# Altium schematic symbol library Schlib_FPGA_Controller.SchLib: 16 symbols
Pins are listed as number, name and electrical type; pins without a type are passive.

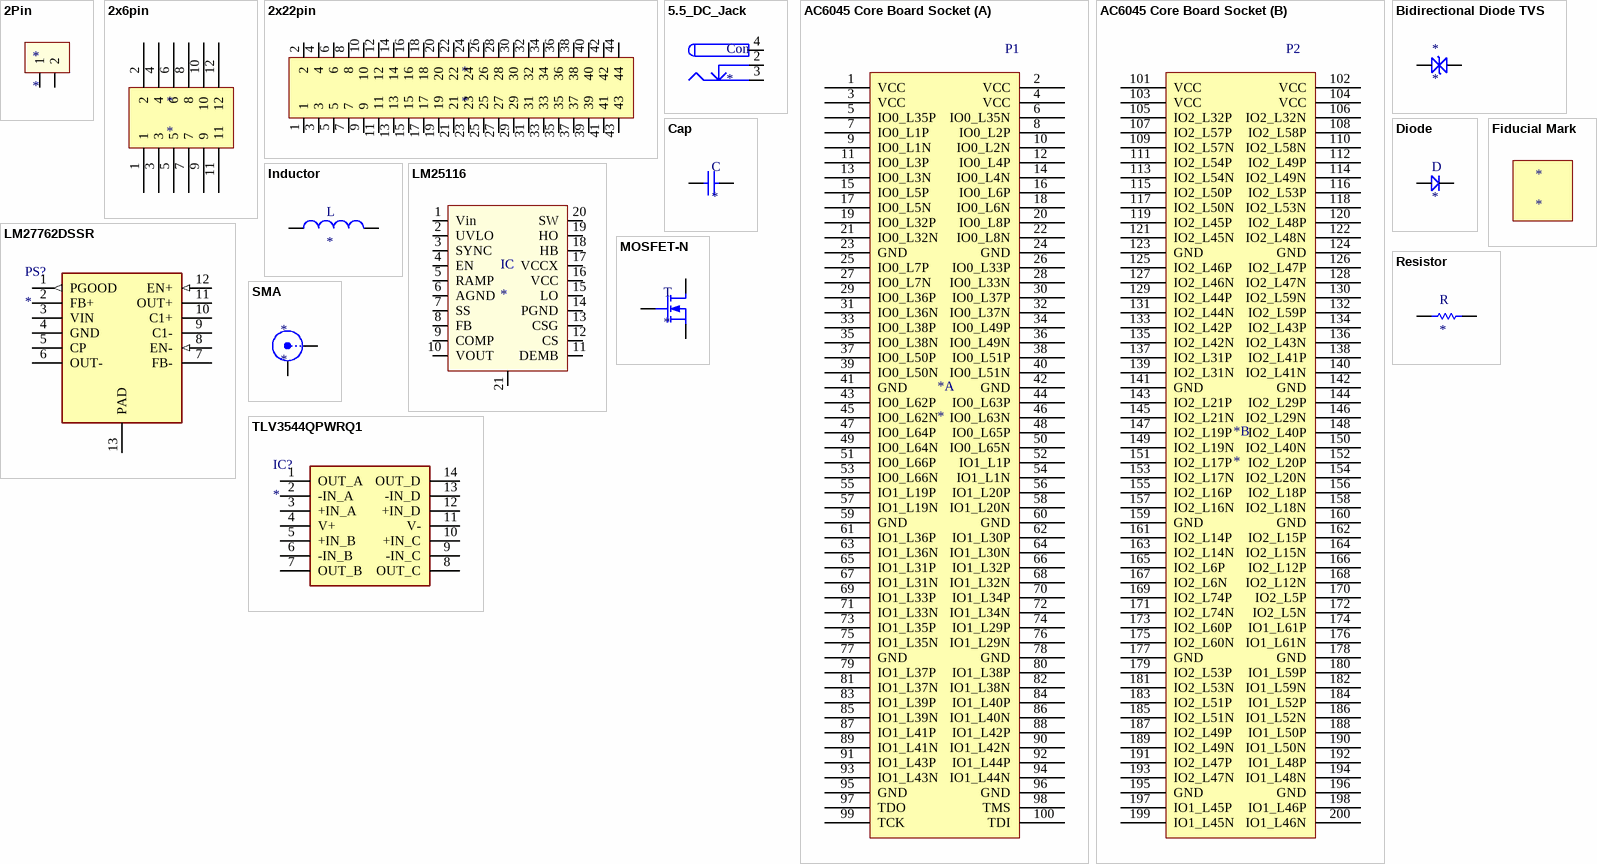
[diagram p0: symbols 2Pin to TLV3544QPWRQ1]

## 2Pin
designator *
footprint XH2.54-2pin
pins: 1, 2

## 2x6pin
designator *
footprint 2MM_2*6PIN
pins: 1, 2, 3, 4, 5, 6, 7, 8, 9, 10, 11, 12

## 2x22pin
designator *
footprint 2mm_2x22pin
pins: 1, 2, 3, 4, 5, 6, 7, 8, 9, 10, 11, 12, 13, 14, 15, 16, 17, 18, 19, 20, 21, 22, 23, 24, 25, 26, 27, 28, 29, 30, 31, 32, 33, 34, 35, 36, 37, 38, 39, 40, 41, 42, 43, 44

## 5.5_DC_Jack
designator Con
footprint 5.5_DC_Jack
pins: 2 (power), 3 (power), 4

## AC6045 Core Board Socket
designator *
footprint Core Board Socket
part A pins: 1 VCC, 2 VCC, 3 VCC, 4 VCC, 5 IO0_L35P, 6 IO0_L35N, 7 IO0_L1P, 8 IO0_L2P, 9 IO0_L1N, 10 IO0_L2N, 11 IO0_L3P, 12 IO0_L4P, 13 IO0_L3N, 14 IO0_L4N, 15 IO0_L5P, 16 IO0_L6P, 17 IO0_L5N, 18 IO0_L6N, 19 IO0_L32P, 20 IO0_L8P, 21 IO0_L32N, 22 IO0_L8N, 23 GND, 24 GND, 25 IO0_L7P, 26 IO0_L33P, 27 IO0_L7N, 28 IO0_L33N, 29 IO0_L36P, 30 IO0_L37P, 31 IO0_L36N, 32 IO0_L37N, 33 IO0_L38P, 34 IO0_L49P, 35 IO0_L38N, 36 IO0_L49N, 37 IO0_L50P, 38 IO0_L51P, 39 IO0_L50N, 40 IO0_L51N, 41 GND, 42 GND, 43 IO0_L62P, 44 IO0_L63P, 45 IO0_L62N, 46 IO0_L63N, 47 IO0_L64P, 48 IO0_L65P, 49 IO0_L64N, 50 IO0_L65N, 51 IO0_L66P, 52 IO1_L1P, 53 IO0_L66N, 54 IO1_L1N, 55 IO1_L19P, 56 IO1_L20P, 57 IO1_L19N, 58 IO1_L20N, 59 GND, 60 GND, 61 IO1_L36P, 62 IO1_L30P, 63 IO1_L36N, 64 IO1_L30N, 65 IO1_L31P, 66 IO1_L32P, 67 IO1_L31N, 68 IO1_L32N, 69 IO1_L33P, 70 IO1_L34P, 71 IO1_L33N, 72 IO1_L34N, 73 IO1_L35P, 74 IO1_L29P, 75 IO1_L35N, 76 IO1_L29N, 77 GND, 78 GND, 79 IO1_L37P, 80 IO1_L38P, 81 IO1_L37N, 82 IO1_L38N, 83 IO1_L39P, 84 IO1_L40P, 85 IO1_L39N, 86 IO1_L40N, 87 IO1_L41P, 88 IO1_L42P, 89 IO1_L41N, 90 IO1_L42N, 91 IO1_L43P, 92 IO1_L44P, 93 IO1_L43N, 94 IO1_L44N, 95 GND, 96 GND, 97 TDO, 98 TMS, 99 TCK, 100 TDI
part B pins: 101 VCC, 102 VCC, 103 VCC, 104 VCC, 105 IO2_L32P, 106 IO2_L32N, 107 IO2_L57P, 108 IO2_L58P, 109 IO2_L57N, 110 IO2_L58N, 111 IO2_L54P, 112 IO2_L49P, 113 IO2_L54N, 114 IO2_L49N, 115 IO2_L50P, 116 IO2_L53P, 117 IO2_L50N, 118 IO2_L53N, 119 IO2_L45P, 120 IO2_L48P, 121 IO2_L45N, 122 IO2_L48N, 123 GND, 124 GND, 125 IO2_L46P, 126 IO2_L47P, 127 IO2_L46N, 128 IO2_L47N, 129 IO2_L44P, 130 IO2_L59N, 131 IO2_L44N, 132 IO2_L59P, 133 IO2_L42P, 134 IO2_L43P, 135 IO2_L42N, 136 IO2_L43N, 137 IO2_L31P, 138 IO2_L41P, 139 IO2_L31N, 140 IO2_L41N, 141 GND, 142 GND, 143 IO2_L21P, 144 IO2_L29P, 145 IO2_L21N, 146 IO2_L29N, 147 IO2_L19P, 148 IO2_L40P, 149 IO2_L19N, 150 IO2_L40N, 151 IO2_L17P, 152 IO2_L20P, 153 IO2_L17N, 154 IO2_L20N, 155 IO2_L16P, 156 IO2_L18P, 157 IO2_L16N, 158 IO2_L18N, 159 GND, 160 GND, 161 IO2_L14P, 162 IO2_L15P, 163 IO2_L14N, 164 IO2_L15N, 165 IO2_L6P, 166 IO2_L12P, 167 IO2_L6N, 168 IO2_L12N, 169 IO2_L74P, 170 IO2_L5P, 171 IO2_L74N, 172 IO2_L5N, 173 IO2_L60P, 174 IO1_L61P, 175 IO2_L60N, 176 IO1_L61N, 177 GND, 178 GND, 179 IO2_L53P, 180 IO1_L59P, 181 IO2_L53N, 182 IO1_L59N, 183 IO2_L51P, 184 IO1_L52P, 185 IO2_L51N, 186 IO1_L52N, 187 IO2_L49P, 188 IO1_L50P, 189 IO2_L49N, 190 IO1_L50N, 191 IO2_L47P, 192 IO1_L48P, 193 IO2_L47N, 194 IO1_L48N, 195 GND, 196 GND, 197 IO1_L45P, 198 IO1_L46P, 199 IO1_L45N, 200 IO1_L46N
part A text: P1
part B text: P2

## Bidirectional Diode TVS
designator *
footprint DIODE-SMB
pins: 1 ANODE, 2 KATHODE

## Cap
designator C
value: *
footprint C0603
footprint C1206
pins: 1, 2

## Diode
designator D
footprint Diode-SOD-323 - duplicate
pins: 1 ANODE, 2 KATHODE

## Fiducial Mark
designator *
footprint fiducial mark

## Inductor
designator L
value: *
footprint Inductor-CDEP147
footprint L0603
pins: 1, 2

## LM25116
designator IC
Buck Controller
footprint HTSSOP-20
pins: 1 Vin, 2 UVLO, 3 SYNC, 4 EN, 5 RAMP, 6 AGND, 7 SS, 8 FB, 9 COMP, 10 VOUT, 11 DEMB, 12 CS, 13 CSG, 14 PGND, 15 LO, 16 VCC, 17 VCCX, 18 HB, 19 HO, 20 SW, 21

## LM27762DSSR
designator PS?
Power Supply; Manufacturer_Name: Texas Instruments; Manufacturer_Part_Number: LM27762DSSR; Datasheet Link: https://www.ti.com/lit/ds/symlink/lm27762.pdf; Height: 0.8mm; Mouser Part Number: 595-LM27762DSSR; Mouser Price/Stock: https://www.mouser.co.uk/ProductDetail/Texas-Instruments/LM27762DSSR?qs=vcbl%252BK4rRlfEJcC9xQ80sA%3D%3D; Arrow Part Number: LM27762DSSR; Arrow Price/Stock: https://www.arrow.com/en/products/lm27762dssr/texas-instruments?region=nac
footprint SON50P200X300X80-13N-D
pins: 1 PGOOD (out), 2 FB+ (power), 3 VIN (power), 4 GND (power), 5 CP (power), 6 OUT- (power), 7 FB- (power), 8 EN- (in), 9 C1- (power), 10 C1+ (power), 11 OUT+ (power), 12 EN+ (in), 13 PAD (power)

## MOSFET-N
designator T
footprint TPH2R608NH
pins: 1 D, 2 G, 3 S

## Resistor
designator R
value: *
footprint R0603
footprint R2010
pins: 1, 2

## SMA
designator *
footprint SMA (3.5mm)
footprint SMA (SMT)
pins: 1 X, 2 Y

## TLV3544QPWRQ1
designator IC?
Integrated Circuit; Manufacturer_Name: Texas Instruments; Manufacturer_Part_Number: TLV3544QPWRQ1; Datasheet Link: http://www.ti.com/lit/gpn/tlv3544-q1; Height: 1.2mm; Mouser Part Number: 595-TLV3544QPWRQ1; Mouser Price/Stock: https://www.mouser.co.uk/ProductDetail/Texas-Instruments/TLV3544QPWRQ1?qs=xhbEVWpZdWeZ7jRiLWDiEw%3D%3D; Arrow Part Number: TLV3544QPWRQ1; Arrow Price/Stock: https://www.arrow.com/en/products/tlv3544qpwrq1/texas-instruments
footprint SOP65P640X120-14N
pins: 1 OUT_A, 2 -IN_A, 3 +IN_A, 4 V+, 5 +IN_B, 6 -IN_B, 7 OUT_B, 8 OUT_C, 9 -IN_C, 10 +IN_C, 11 V-, 12 +IN_D, 13 -IN_D, 14 OUT_D